# EAGLE library part JD-T1800 (library adafruit agosto 2013)
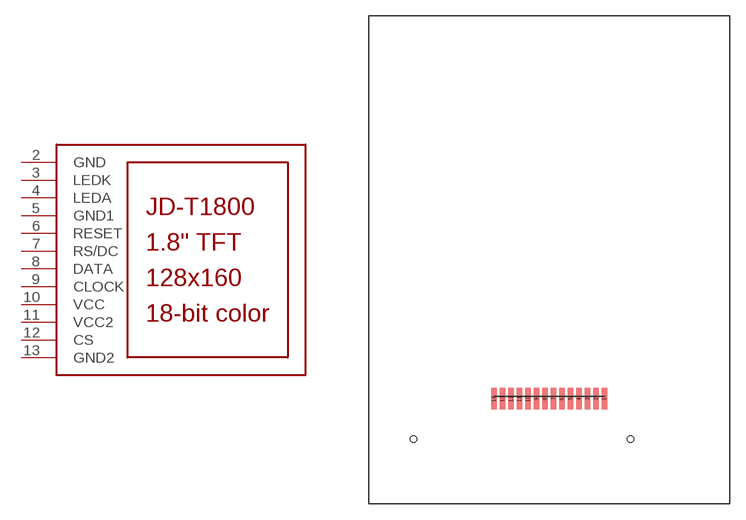
[diagram p69: symbol with the pads of JD-T1800; footprint JD-T1800]

Designator prefix LCD

## JD-T1800  [JD-T1800]
2  GND  pwr
3  LEDK  in
4  LEDA  in
5  GND1  pwr
6  RESET  in
7  RS/DC  in
8  DATA
9  CLOCK  in
10  VCC  pwr
11  VCC2  pwr
12  CS  in
13  GND2  pwr

## Footprint JD-T1800 (pad centres in mm)
smd 0.5 x 2: 1 5.2,-13.1; 2 4.4,-13.1; 3 3.6,-13.1; 4 2.8,-13.1; 5 2,-13.1; 6 1.2,-13.1; 7 0.4,-13.1; 8 -0.4,-13.1; 9 -1.2,-13.1; 10 -2,-13.1; 11 -2.8,-13.1; 12 -3.6,-13.1; 13 -4.4,-13.1; 14 -5.2,-13.1
hole 0.6 at -12.8,-16.9
hole 0.6 at 7.65,-16.9